# Altium schematic symbol library ASV-25-50.000MHZ-E-J-T.SchLib: 1 symbol
Pins are listed as number, name and electrical type; pins without a type are passive.

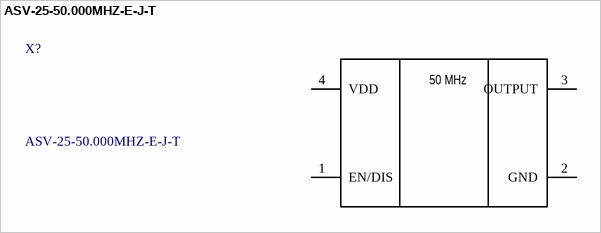
[diagram p0: symbol ASV-25-50.000MHZ-E-J-T]

## ASV-25-50.000MHZ-E-J-T
designator X?
Standard Clock Oscillators 2.5V 50MHz; Manufacturer_Name: ABRACON; Geometry.Height: 2mm; Manufacturer_Part_Number: ASV-25-50.000MHZ-E-J-T; Mouser Part Number: 815-ASV-25-50.000M; Mouser Price/Stock: https://www.mouser.com/Search/Refine.aspx?Keyword=815-ASV-25-50.000M; Arrow Part Number: *; Arrow Price/Stock: *; Datasheet Link: https://www.mouser.com/datasheet/2/3/asv-asv1-8830.pdf
footprint ASV2550000MHZEJT
pins: 1 EN/DIS, 2 GND, 3 OUTPUT, 4 VDD
text: 50 MHz